# Altium footprint library RT3215-32.768-12.5-TR.PcbLib: 1 footprints
Each footprint in its own frame and in the unit in brackets; x right, y up, seen from the top. Pads: shape width x height; smd on the part's side, far side on the other; paste and mask are expansions set on the pad; w line width, h text height; cw(c..) or ccw(c..) is an arc to the next point about the centre after c.
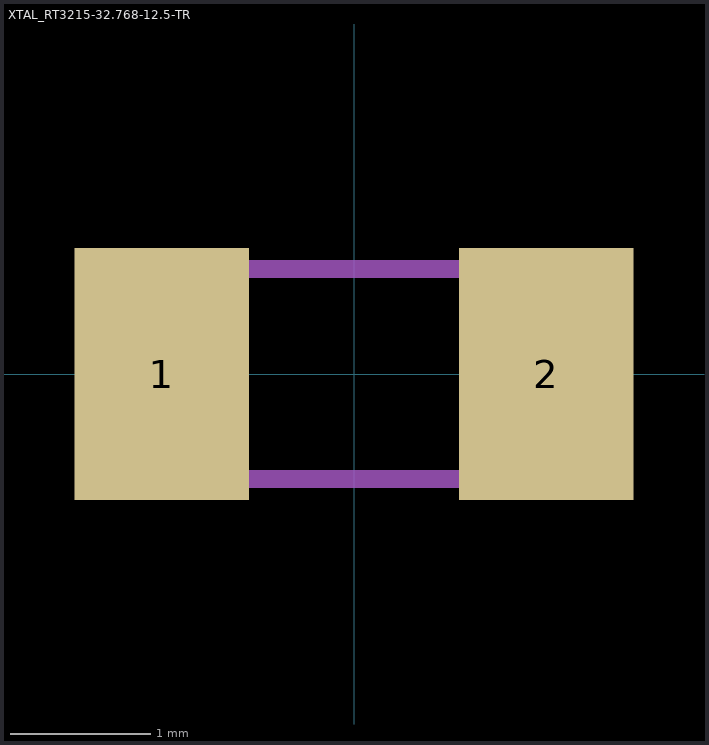
[diagram p0: the footprint, top view; thin cyan lines are the x and y axes]

## XTAL_RT3215-32.768-12.5-TR [mm]
height 0.9
pads (2):
  rect 1.25x1.8 smd: 1(-1.375,0) 2(1.375,0)
Mechanical 1:
  lines w0.127: -1.6,-0.75 1.6,-0.75 1.6,0.75 -1.6,0.75 -1.6,-0.75
3D body "ECS-.step": height 0.91, standoff 0, extent -1.6,-0.75 1.6,0.75